# EAGLE library part IN-14_IV-11_COMBI (library nixe_cmp)
Combination between IN-14 and IV-11 Russian tubes IN-14: medium numeric frontview nixie tube IV-11: Medium 7-segment frontview VFD tube
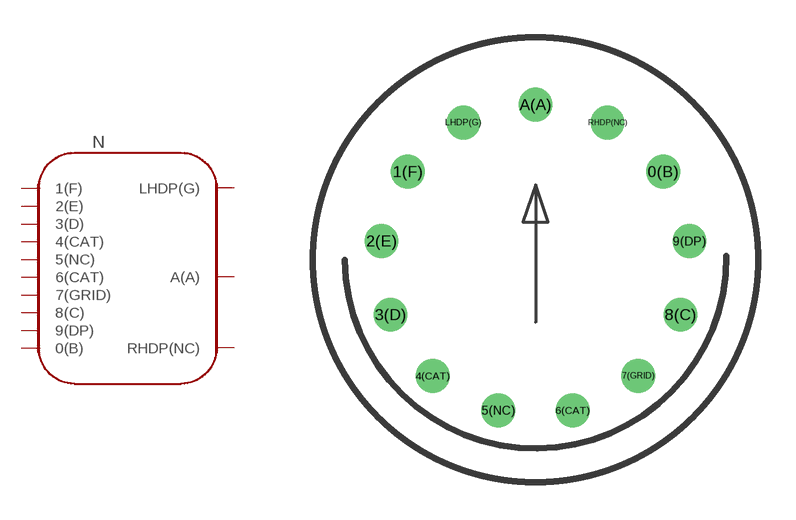
[diagram p1: symbol with the pads of IN-14_IV-11; footprint IN-14_IV-11]

Designator prefix N

## IN-14_IV-11_COMBI  [IN-14_IV-11]
0(B)  0(B)
1(F)  1(F)
2(E)  2(E)
3(D)  3(D)
4(CAT)  4(CAT)
5(NC)  5(NC)
6(CAT)  6(CAT)
7(GRID)  7(GRID)
8(C)  8(C)
9(DP)  9(DP)
A(A)  A(A)
LHDP(G)  LHDP(G)
RHDP(NC)  RHDP(NC)

## Footprint IN-14_IV-11 (pad centres in mm)
drill 0.84: 0(B) 5.094,3.516; 1(F) -5.094,3.516; 2(E) -6.145,0.746; 3(D) -5.788,-2.195; 4(CAT) -4.105,-4.633; 5(NC) -1.481,-6.01; 6(CAT) 1.481,-6.01; 7(GRID) 4.105,-4.633; 8(C) 5.788,-2.195; 9(DP) 6.145,0.746; A(A) 0,6.19; LHDP(G) -2.877,5.481; RHDP(NC) 2.877,5.481